# Altium schematic symbol library Teco-FSMSM.Schlib: 1 symbol
Pins are listed as number, name and electrical type; pins without a type are passive.

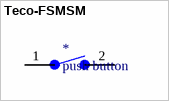
[diagram p0: symbol Teco-FSMSM]

## Teco-FSMSM
designator *, comment push button
pins: 1, 2